# Altium schematic symbol library Schlib2.SchLib: 1 symbol
Pins are listed as number, name and electrical type; pins without a type are passive.

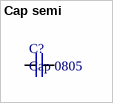
[diagram p0: symbol Cap semi]

## Cap semi
designator C?, comment Cap 0805
footprint Cap 0805
pins: 1, 2